# Altium footprint library DB1627.PcbLib: 1 footprints
Each footprint in its own frame and in the unit in brackets; x right, y up, seen from the top. Pads: shape width x height; smd on the part's side, far side on the other; paste and mask are expansions set on the pad; w line width, h text height; cw(c..) or ccw(c..) is an arc to the next point about the centre after c.
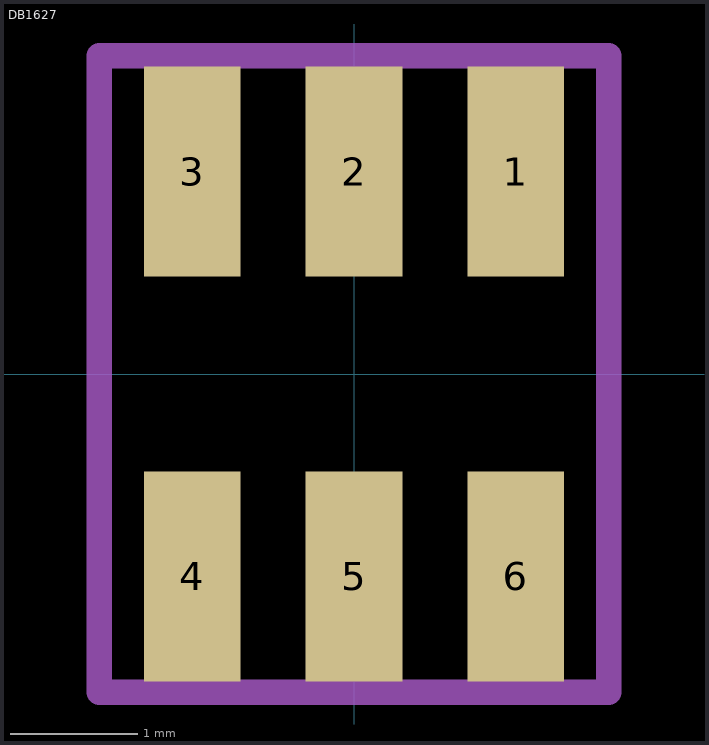
[diagram p0: the footprint, top view; thin cyan lines are the x and y axes]

## DB1627 [mm] "MiniCircuits DB1627"
height 4.6
pads (6):
  rect 0.76x1.65 smd: 1(1.27,1.59) 2(0,1.59) 3(-1.27,1.59) 4(-1.27,-1.59) 5(0,-1.59) 6(1.27,-1.59)
Top Courtyard:
  lines w0.2: -2,-2.5 2,-2.5 2,2.5 -2,2.5 -2,-2.5
3D body "User Library-Tcm1-83x+.STEP": height 4.06, standoff 0, extent -1.91,-2.03 1.91,2.03